# EAGLE library part BK8000L (library BK8000L)
BK8000L Bluetooth Audio module.
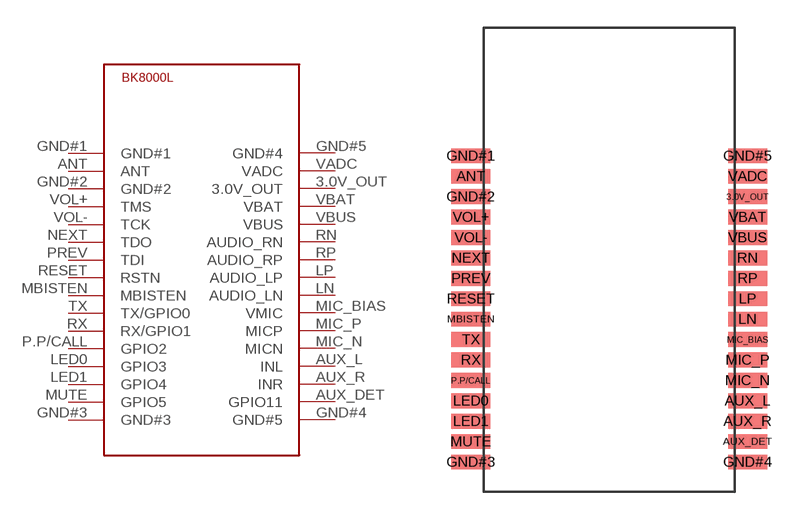
[diagram p0: symbol with the pads of BK8000L; footprint BK8000L]

Designator prefix -

## BK8000LBK8000L_PAD  [BK8000L]
3.0V_OUT  3.0V_OUT
ANT  ANT
AUX_DET  GPIO11
AUX_L  INL
AUX_R  INR
GND#1  GND#1
GND#2  GND#2
GND#3  GND#3
GND#4  GND#5
GND#5  GND#4
LED0  GPIO3
LED1  GPIO4
LN  AUDIO_LN
LP  AUDIO_LP
MBISTEN  MBISTEN
MIC_BIAS  VMIC
MIC_N  MICN
MIC_P  MICP
MUTE  GPIO5
NEXT  TDO
P.P/CALL  GPIO2
PREV  TDI
RESET  RSTN
RN  AUDIO_RN
RP  AUDIO_RP
RX  RX/GPIO1
TX  TX/GPIO0
VADC  VADC
VBAT  VBAT
VBUS  VBUS
VOL+  TMS
VOL-  TCK

## Footprint BK8000L (pad centres in mm)
smd 2.1 x 0.8: 3.0V_OUT 14.2,15.9; ANT -0.7,17; AUX_DET 14.2,2.7; AUX_L 14.2,4.9; AUX_R 14.2,3.8; GND#1 -0.7,18.1; GND#2 -0.7,15.9; GND#3 -0.7,1.6; GND#4 14.2,1.6; GND#5 14.2,18.1; LED0 -0.7,4.9; LED1 -0.7,3.8; LN 14.2,9.3; LP 14.2,10.4; MBISTEN -0.7,9.3; MIC_BIAS 14.2,8.2; MIC_N 14.2,6; MIC_P 14.2,7.1; MUTE -0.7,2.7; NEXT -0.7,12.6; P.P/CALL -0.7,6; PREV -0.7,11.5; RESET -0.7,10.4; RN 14.2,12.6; RP 14.2,11.5; RX -0.7,7.1; TX -0.7,8.2; VADC 14.2,17; VBAT 14.2,14.8; VBUS 14.2,13.7; VOL+ -0.7,14.8; VOL- -0.7,13.7